# EAGLE library part MICROSD_SD_MODE (library own_parts2)
MOLEX - 49225-0821 - CONNECTEUR MICRO SD PUSH/PUSH REV Fabricant: MOLEX Code commande Farnell: 1366700 <http://fr.farnell.com/molex/49225-0821/connecteur-micro-sd-push-push-rev/dp/1366700?Ntt=1366700> Référence fabricant: 49225-0821
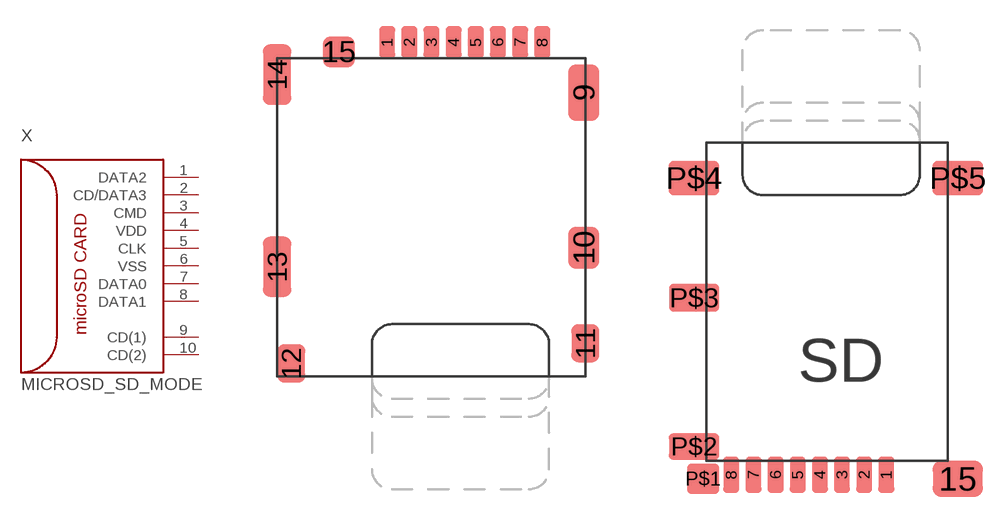
[diagram p27: symbol with the pads of MICRO_SD_CONNECTOR; footprints MICRO_SD_CONNECTOR, MICRO_SD_CONNECTOR_MOLEX]

Designator prefix X

## MICROSD_SD_MODE  [MICRO_SD_CONNECTOR]
1  DATA2
2  CD/DATA3
3  CMD
4  VDD
5  CLK
6  VSS
7  DATA0
8  DATA1
9  CD(1)
10  CD(2)

## MICROSD_SD_MODEMICRO_SD_MOLEX  [MICRO_SD_CONNECTOR_MOLEX]
1  DATA2
2  CD/DATA3
3  CMD
4  VDD
5  CLK
6  VSS
7  DATA0
8  DATA1
15  CD(1)
P$1  CD(2)

## Footprint MICRO_SD_CONNECTOR (pad centres in mm)
smd 0.8 x 1.6: 1 -2.03,8.2; 2 -0.93,8.2; 3 0.17,8.2; 4 1.27,8.2; 5 2.37,8.2; 6 3.47,8.2; 7 4.57,8.2; 8 5.67,8.2
smd 1.55 x 2.8: 9 7.735,5.7
smd 1.55 x 2.1: 10 7.735,-2
smd 1.4 x 1.9: 11 7.81,-6.75; 12 -6.79,-7.75
smd 1.4 x 3: 13 -7.49,-2.95; 14 -7.49,6.6
smd 1.6 x 1.55: 15 -4.43,7.725

## Footprint MICRO_SD_CONNECTOR_MOLEX (pad centres in mm)
smd 0.8 x 1.8: 1 8.9,-0.7; 2 7.8,-0.7; 3 6.7,-0.7; 4 5.6,-0.7; 5 4.5,-0.7; 6 3.4,-0.7; 7 2.3,-0.7; 8 1.2,-0.7
smd 2.5 x 1.8: 15 12.45,-0.9
smd 1.6 x 1.5: P$1 -0.2,-0.9
smd 2.5 x 1.3: P$2 -0.65,0.7
smd 2.5 x 1.4: P$3 -0.65,8.1
smd 2.5 x 1.7: P$4 -0.65,14.05; P$5 12.45,14.05